# Altium schematic symbol library Power_Filters.SchLib: 25 symbols
Pins are listed as number, name and electrical type; pins without a type are passive.

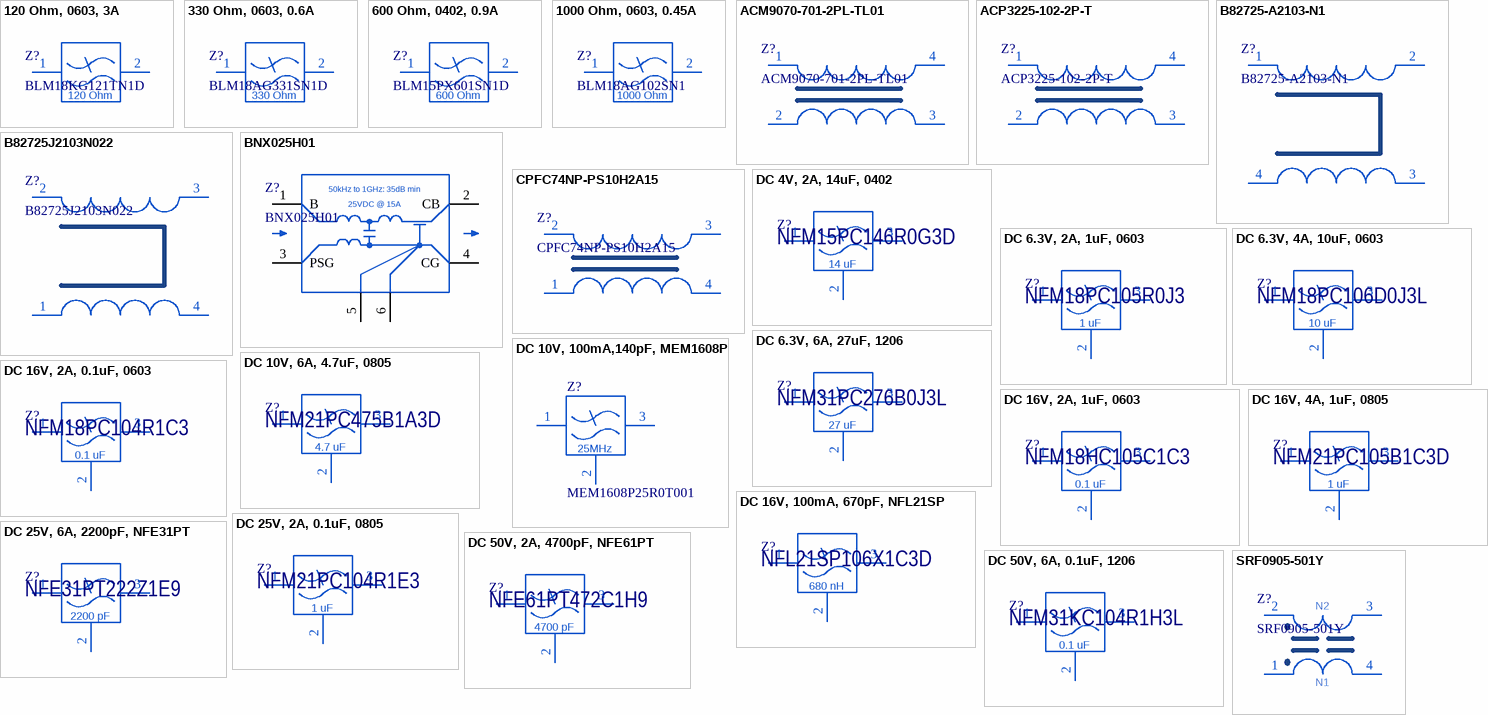
[diagram p0: symbols 120 Ohm, 0603, 3A to SRF0905-501Y]

## 120 Ohm, 0603, 3A
designator Z?, comment BLM18KG121TN1D
Power line filter, impedance 120 @ 100 MHz Ohm (current 3A); Manufacturer: Murata; DCR: 0.03 Ohm; ItemSubType: Ferrite Bead; PartNumber: BLM18KG121TN1D; Package: 0603; ItemType: Filter; Mounting: SMD
footprint BLM0603 (Filter 0603)
pins: 1, 2
text: 120 Ohm

## 330 Ohm, 0603, 0.6A
designator Z?, comment BLM18AG331SN1D
Power line filter, impedance 330 @ 100 MHz Ohm (current 0.6A); Manufacturer: Murata; DCR: 0.3 Ohm; ItemSubType: Ferrite Bead; PartNumber: BLM18AG331SN1D; Package: 0603; ItemType: Filter; Mounting: SMD
footprint BLM0603 (Filter 0603)
pins: 1, 2
text: 330 Ohm

## 600 Ohm, 0402, 0.9A
designator Z?, comment BLM15PX601SN1D
Power line filter, impedance600 Ohm @ 100 MHz (current 0.9A); Manufacturer: Murata; DCR: 230 mOhm; ItemSubType: Ferrite Bead; PartNumber: BLM15PX601SN1D; Package: 0402; ItemType: Filter; Mounting: SMD
footprint BLM0402
footprint BLM0402_0.8
pins: 1, 2
text: 600 Ohm

## 1000 Ohm, 0603, 0.45A
designator Z?, comment BLM18AG102SN1
Power line filter, impedance 1000 @ 100 MHz Ohm (current 0.45A); Manufacturer: Murata; DCR: 0.5 Ohm; ItemSubType: Ferrite Bead; PartNumber: BLM18AG102SN1; Package: 0603; ItemType: Filter; Mounting: SMD
footprint BLM0603 (Filter 0603)
pins: 1, 2
text: 1000 Ohm

## ACM9070-701-2PL-TL01
designator Z?
Common mode filters 700 Ohm @ 1 MHz. For power line; Manufacturer: TDK; RDC: 0.010 Ohm; Voltage: 80V; Current: 5 A; ItemType: Filter; ItemSubType: Power EMI Filter; PartNumber: ACM9070-701-2PL-TL01; Mounting: SMD
footprint ACM9070 (ACM9070 Common mode filters)
pins: 1 IN-, 2 OUT-, 3 OUT+, 4 IN+

## ACP3225-102-2P-T
designator Z?
Common mode filters 1000 Ohm @ 100 MHz. For power line; Manufacturer: TDK; RDC: 0.050 Ohm; Voltage: 60V; Current: 1.5 A; ItemType: Filter; ItemSubType: Power EMI Filter; PartNumber: ACP3225-102-2P-T; Mounting: SMD
footprint ACM3225 (ACM3225 Common mode filters)
pins: 1 IN-, 2 OUT-, 3 OUT+, 4 IN+

## B82725-A2103-N1
designator Z?
Current-compensated ring core double chokes; Manufacturer: Epcos; RDC: 0.14 Ohm; Voltage: 250V; Inductance: 2x1.8mH; Current: 10 A; ItemType: Filter; ItemSubType: Power EMI Filter; PartNumber: B82725-A2103-N1; Mounting: THT
footprint B82725 (Ring core double chokes B82725 Series)
pins: 1 IN-, 2 OUT-, 3 OUT+, 4 IN+

## B82725J2103N022
designator Z?
Current-compensated ring core double chokes; Manufacturer: Epcos; RDC: 0.13 Ohm; Voltage: 250V; Inductance: 2x1.8mH; Current: 10 A; ItemType: Filter; ItemSubType: Power EMI Filter; PartNumber: B82725J2103N022; Mounting: THT
footprint B82725J (Power line chokes B82725J Series)
pins: 1 IN-, 2 OUT-, 3 OUT+, 4 IN+

## BNX025H01
designator Z?
Block Type EMIFIL (LC Combined); Manufacturer: Murata; ItemType: Filter; ItemSubType: Power EMI Filter; PartNumber: BNX025H01; Mounting: SMD
footprint BNX025
pins: 1 B, 2 CB, 3 PSG, 4 CG, 5 CG, 6 CG
text: 50kHz to 1GHz: 35dB min; 25VDC @ 15A

## CPFC74NP-PS10H2A15
designator Z?
Common mode filters 700 Ohm @ 100 MHz. For power line; Manufacturer: TDK; RDC: 0.120 Ohm; Voltage: 125V; Current: 1.5 A; ItemType: Filter; ItemSubType: Power EMI Filter; PartNumber: CPFC74NP-PS10H2A15; Mounting: SMD
footprint CPFC74NP (CPFC74NP Common mode filters)
pins: 1 IN-, 2 OUT-, 3 OUT+, 4 IN+

## DC 4V, 2A, 14uF, 0402
designator Z?, comment NFM15PC146R0G3D
Terminal Filter Capacitors 4VDC 2A; Manufacturer: Murata; PartNumber: NFM15PC146R0G3D; ItemType: Filter; ItemSubType: Terminal Filter Capacitor; Mounting: SMD
footprint NFM15PC146 (3-terminal capacitor NFM15PC Series)
pins: 1, 2, 3
text: 14 uF

## DC 6.3V, 2A, 1uF, 0603
designator Z?, comment NFM18PC105R0J3
Terminal Filter Capacitors 6.3VDC 2A; Manufacturer: Murata; PartNumber: NFM18PC105R0J3; ItemType: Filter; ItemSubType: Terminal Filter Capacitor; Mounting: SMD
footprint NFM18PC (3-terminal capacitor NFM18CC/18PC Series)
pins: 1, 2, 3
text: 1 uF

## DC 6.3V, 4A, 10uF, 0603
designator Z?, comment NFM18PC106D0J3L
Terminal Filter Capacitors 6.3VDC 4A; Manufacturer: Murata; PartNumber: NFM18PC106D0J3L; ItemType: Filter; ItemSubType: Terminal Filter Capacitor; Mounting: SMD
footprint NFM18PC (3-terminal capacitor NFM18CC/PC Series)
pins: 1, 2, 3
text: 10 uF

## DC 6.3V, 6A, 27uF, 1206
designator Z?, comment NFM31PC276B0J3L
Terminal Filter Capacitors 6.3VDC 6A; Manufacturer: Murata; PartNumber: NFM31PC276B0J3L; Package: 1206; ItemType: Filter; ItemSubType: Terminal Filter Capacitor; Mounting: SMD
footprint NFM31PC (3-terminal capacitor NFM31PC/KC Series)
pins: 1, 2, 3
text: 27 uF

## DC 10V, 6A, 4.7uF, 0805
designator Z?, comment NFM21PC475B1A3D
Terminal Filter Capacitors 10VDC 6A; Manufacturer: Murata; PartNumber: NFM21PC475B1A3D; ItemType: Filter; ItemSubType: Terminal Filter Capacitor; Mounting: SMD
footprint NFM21PC (3-terminal capacitor NFM21CC/21PC Series)
pins: 1, 2, 3
text: 4.7 uF

## DC 10V, 100mA,140pF, MEM1608P
designator Z?, comment MEM1608P25R0T001
EMI Filter 100mA, 140pF, 25MHz; Manufacturer: TDK; ItemSubType: Terminal Filter Capacitor; PartNumber: MEM1608P25R0T001; ItemType: Filter
footprint MEM1608P (3-terminal capacitor MEM1608P Series)
pins: 1, 2, 3
text: 25MHz

## DC 16V, 2A, 0.1uF, 0603
designator Z?, comment NFM18PC104R1C3
Terminal Filter Capacitors 16VDC 2A; Manufacturer: Murata; PartNumber: NFM18PC104R1C3; ItemType: Filter; ItemSubType: Terminal Filter Capacitor; Mounting: SMD
footprint NFM18PC (3-terminal capacitor NFM18CC/PC Series)
pins: 1, 2, 3
text: 0.1 uF

## DC 16V, 2A, 1uF, 0603
designator Z?, comment NFM18HC105C1C3
Terminal Filter Capacitors 16VDC 2A; Manufacturer: Murata; PartNumber: NFM18HC105C1C3; ItemType: Filter; ItemSubType: Terminal Filter Capacitor; Mounting: SMD
footprint NFM18PC (3-terminal capacitor NFM18CC/PC Series)
pins: 1, 2, 3
text: 0.1 uF

## DC 16V, 4A, 1uF, 0805
designator Z?, comment NFM21PC105B1C3D
Terminal Filter Capacitors 16VDC 4A; Manufacturer: Murata; PartNumber: NFM21PC105B1C3D; ItemType: Filter; ItemSubType: Terminal Filter Capacitor; Mounting: SMD
footprint NFM21PC (3-terminal capacitor NFM21CC/21PC Series)
pins: 1, 2, 3
text: 1 uF

## DC 16V, 100mA, 670pF, NFL21SP
designator Z?, comment NFL21SP106X1C3D
EMI Filter 100mA, 670pF, 10MHz; Manufacturer: Murata; ItemSubType: Terminal Filter Capacitor; PartNumber: NFL21SP106X1C3D; ItemType: Filter; Mounting: SMD
footprint NFL21SP (3-terminal capacitor NFL21SP Series)
pins: 1, 2, 3
text: 680 nH

## DC 25V, 2A, 0.1uF, 0805
designator Z?, comment NFM21PC104R1E3
Terminal Filter Capacitors 25VDC 2A; Manufacturer: Murata; PartNumber: NFM21PC104R1E3; ItemType: Filter; ItemSubType: Terminal Filter Capacitor; Mounting: SMD
footprint NFM21PC (3-terminal capacitor NFM21CC/21PC Series)
pins: 1, 2, 3
text: 1 uF

## DC 25V, 6A, 2200pF, NFE31PT
designator Z?, comment NFE31PT222Z1E9
Terminal Filter Capacitors 25VDC 6A for Large Current; Manufacturer: Murata; PartNumber: NFE31PT222Z1E9; ItemType: Filter; ItemSubType: Terminal Filter Capacitor; Mounting: SMD
footprint NFE31PT (3-terminal capacitor NFE31PT for Large Current)
pins: 1, 2, 3
text: 2200 pF

## DC 50V, 2A, 4700pF, NFE61PT
designator Z?, comment NFE61PT472C1H9
Terminal Filter Capacitors 50VDC 2A; Manufacturer: Murata; PartNumber: NFE61PT472C1H9; ItemType: Filter; ItemSubType: Terminal Filter Capacitor; Mounting: SMD
footprint NFE61PT (3-terminal capacitor)
pins: 1, 2, 3
text: 4700 pF

## DC 50V, 6A, 0.1uF, 1206
designator Z?, comment NFM31KC104R1H3L
Terminal Filter Capacitors 50VDC 6A; Manufacturer: Murata; PartNumber: NFM31KC104R1H3L; Package: 1206; ItemType: Filter; ItemSubType: Terminal Filter Capacitor; Mounting: SMD
footprint NFM31PC (3-terminal capacitor NFM31PC/KC Series)
pins: 1, 2, 3
text: 0.1 uF

## SRF0905-501Y
designator Z?
Shielded SMD Line Filter; Manufacturer: Bourns; AltManufacturer1: ABC Taiwan Electronics; RDC: 0.15 Ohm; Impedance: 1000 Ohm (1-20 MHz); Voltage: 80V; Inductance: 500 µH; Current: 1.0 A; Alternative1: SF0905-501YLB; ItemSubType: Power EMI Filter; PartNumber: SRF0905-501Y; ItemType: Filter; Mounting: SMD
footprint SRF0905 (SRF0905 Series - Line Filter)
pins: 1 IN-, 2 OUT-, 3 OUT+, 4 IN+
text: N2; N1